# Altium schematic symbol library SN65LVDS1DBVR.SchLib: 1 symbol
Pins are listed as number, name and electrical type; pins without a type are passive.

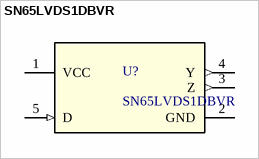
[diagram p0: symbol SN65LVDS1DBVR]

## SN65LVDS1DBVR
designator U?
630-Mbps single LVDS driver 5-SOT-23 -40 to 85; Manufacturer_Name: Texas Instruments; Alternate_PartNumber: SN65LVDS1DBVT; CompType: IC; TYPE: TYPE; RefDes: RefDes; Copyright: Copyright (C) 2026 Ultra Librarian. All rights reserved.; Manufacturer_Part_Number: SN65LVDS1DBVR; PartNumber: SN65LVDS1DBVR; PackageReference: DBV0005A; MountType: SMT; RoHS: Y; Manufacturer: Texas Instruments
footprint DBV0005A_N
pins: 1 VCC, 2 GND (power), 3 Z (out), 4 Y (out), 5 D (in)